# Altium footprint library resistencias_smd.PCBLIB: 183 footprints (part 12 of 12)
Each footprint in its own frame and in the unit in brackets; x right, y up, seen from the top. Pads: shape width x height; smd on the part's side, far side on the other; paste and mask are expansions set on the pad; w line width, h text height; cw(c..) or ccw(c..) is an arc to the next point about the centre after c.
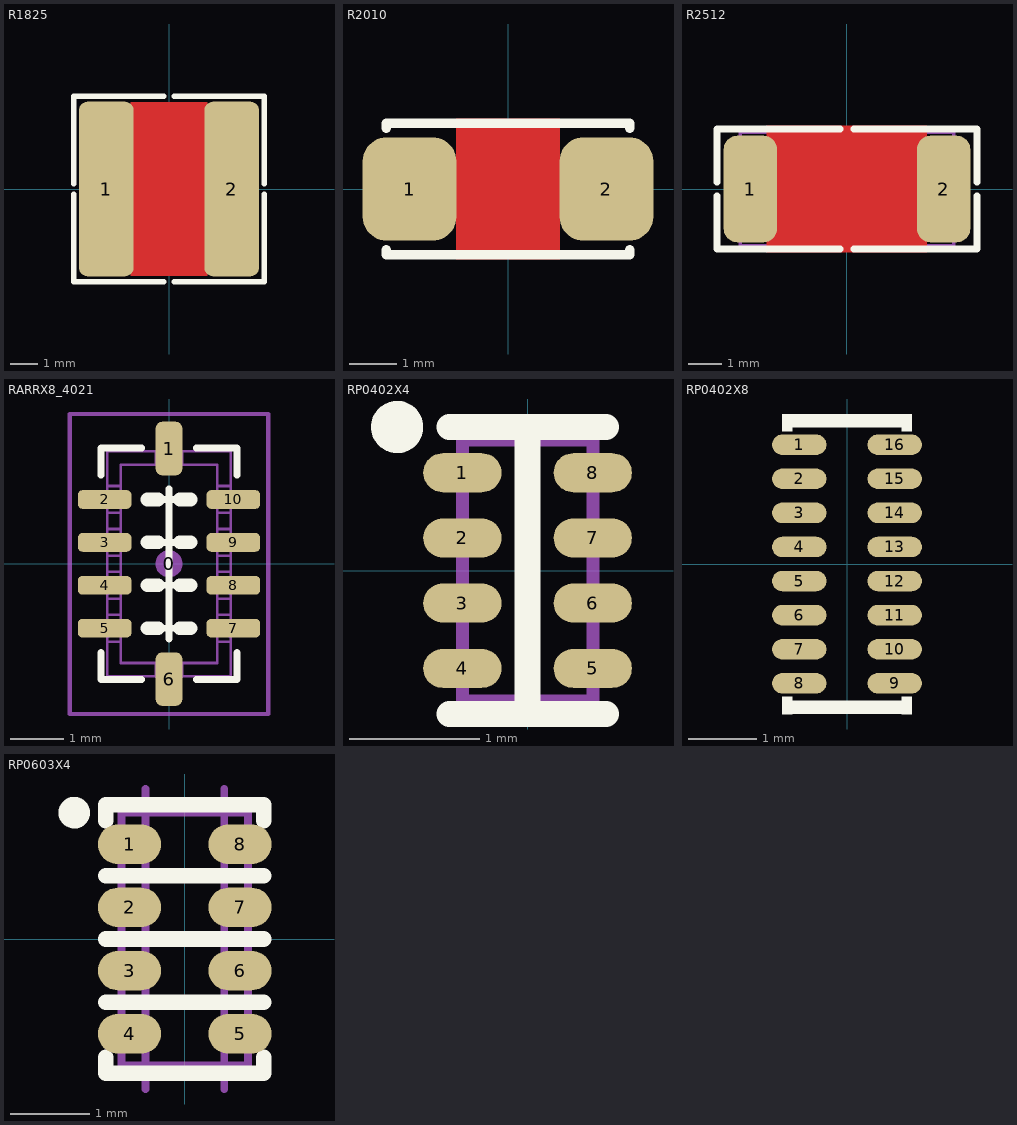
[diagram p11: the footprints below, top view; thin cyan lines are the x and y axes]

## R1825 [mm] "CHIP Resistor, 5.1x3.0mm, 4.6X6.4mm, 1825, 4565"
pads (2):
  rrect30% 2x6.4 smd: 1(-2.3,0) 2(2.3,0)
Top Layer:
  pour cut-out: 1.397,3.175 1.397,-3.175 -1.397,-3.175 -1.397,3.175
Top Overlay:
  lines w0.2: -3.5,-0.2 -3.5,-3.4 -0.2,-3.4 ; -3.5,0.2 -3.5,3.4 -0.2,3.4 ; 0.2,-3.4 3.5,-3.4 3.5,-0.2 ; 0.2,3.4 3.5,3.4 3.5,0.2
3D body "User Library-1825(4564M) Res.step": height 2.54, standoff 0, extent -2.81,-3.2 2.81,3.201

## R2010 [mm] "CHIP RESISTOR 3/4 WATT, 5.1x3mm, 2010, 5025"
pads (2):
  rrect50% 2x2.2 smd: 1(-2.1,0) 2(2.1,0)
Top Layer:
  pour cut-out: -1.1,1.5 1.1,1.5 1.1,-1.5 -1.1,-1.5
Top Overlay:
  lines w0.2: -2.6,-1.3 -2.6,-1.4 2.6,-1.4 2.6,-1.3 ; -2.6,1.3 -2.6,1.4 2.6,1.4 2.6,1.3
3D body "User Library-R_2010.step": height 0.6, standoff 0, extent -2.5,-1.25 2.5,1.25

## R2512 [mm] "CHIP RESISTOR 1 WATT, 6.4X3.2mm, 2512, 6432"
height 1
pads (2):
  rrect50% 1.6x3.2 smd: 1(-2.9,0) 2(2.9,0)
Top Layer:
  pour cut-out: -2.4,1.9 2.4,1.9 2.4,-1.9 -2.4,-1.9
Top Overlay:
  lines w0.2: -3.9,-0.2 -3.9,-1.8 -0.2,-1.8 ; -3.9,0.2 -3.9,1.8 -0.2,1.8 ; 0.2,-1.8 3.9,-1.8 3.9,-0.2 ; 0.2,1.8 3.9,1.8 3.9,0.2
Mechanical 13:
  lines w0.1: -3.2,-1.7 -3.2,1.7 3.2,1.7 3.2,-1.7 -3.2,-1.7
3D body "User Library-2512 SMD Resistor.step": height 1.6, standoff 0, extent -3.175,-1.5 3.175,1.5

## RARRX8_4021 [mm] "Resistor ARRAY X8, SMD, 4.0x2.1mm"
height 0.65
pads (11):
  round 0.508 on Mech15: 0(0,0)
  rrect50% 0.5x1 smd: 1(0,2.15) 6(0,-2.15)
  rrect50% 1x0.35 smd: 2(-1.2,1.2) 3(-1.2,0.4) 4(-1.2,-0.4) 5(-1.2,-1.2) 7(1.2,-1.2) 8(1.2,-0.4) 9(1.2,0.4) 10(1.2,1.2)
Top Overlay:
  lines w0.127: -1.27,-1.651 -1.27,-2.159 -0.508,-2.159 ; -1.27,1.651 -1.27,2.159 -0.508,2.159 ; -0.2,-1.2 0.2,-1.2 ; -0.2,-0.4 0.2,-0.4 ; -0.2,0.4 0.2,0.4 ; -0.2,1.2 0.2,1.2 ; 0,-1.4 0,1.4 ; 0.508,-2.159 1.27,-2.159 1.27,-1.651 ; 0.508,2.159 1.27,2.159 1.27,1.651
  lines w0.254: -0.4,-1.2 -0.2,-1.2 ; -0.4,-0.4 -0.2,-0.4 ; -0.4,0.4 -0.2,0.4 ; -0.4,1.2 -0.2,1.2 ; 0.2,-1.2 0.4,-1.2 ; 0.2,-0.4 0.4,-0.4 ; 0.2,0.4 0.4,0.4 ; 0.2,1.2 0.4,1.2
Mechanical 13:
  lines w0.05: -1.149,-0.95 -1.15,-0.65 ; -1.149,-0.15 -1.15,0.15 ; -1.149,0.65 -1.15,0.95 ; -0.9,-1.45 -1.15,-1.45 ; -0.9,-0.95 -1.15,-0.95 -1.15,-1.05 cw(c-1.15,-1.2) -1.15,-1.35 -1.15,-1.45 ; -0.9,-0.65 -1.15,-0.65 ; -0.9,-0.15 -1.15,-0.15 -1.15,-0.25 cw(c-1.15,-0.4) -1.15,-0.55 -1.15,-0.65 ; -0.9,0.15 -1.15,0.15 ; -0.9,0.65 -1.15,0.65 -1.15,0.55 cw(c-1.15,0.4) -1.15,0.25 -1.15,0.15 ; -0.9,0.95 -1.15,0.95 ; -0.9,1.45 -1.15,1.45 ; -0.25,-1.85 -0.25,-2.1 ; -0.25,1.85 -0.25,2.1 ; 0.25,-1.85 0.25,-2.1 ; 0.25,1.85 0.25,2.1 ; 0.9,-1.45 1.15,-1.45 ; 0.9,-0.95 1.15,-0.95 1.15,-1.05 ccw(c1.15,-1.2) 1.15,-1.35 1.15,-1.45 ; 0.9,-0.65 1.15,-0.65 ; 0.9,-0.15 1.15,-0.15 1.15,-0.25 ccw(c1.15,-0.4) 1.15,-0.55 1.15,-0.65 ; 0.9,0.15 1.15,0.15 ; 0.9,0.65 1.15,0.65 1.15,0.55 ccw(c1.15,0.4) 1.15,0.25 1.15,0.15 ; 0.9,0.95 1.15,0.95 ; 0.9,1.45 1.15,1.45 ; 1.149,-0.95 1.15,-0.65 ; 1.149,-0.15 1.15,0.15 ; 1.149,0.65 1.15,0.95 ; -1.15,-1.45 -1.149,-2.099 -0.25,-2.1 ; -1.15,0.95 -1.15,1.05 ccw(c-1.15,1.2) -1.15,1.35 -1.15,1.45 ; -1.15,1.45 -1.149,2.099 -0.25,2.1 ; -0.25,-2.1 -0.15,-2.1 cw(c0,-2.1) 0.15,-2.1 0.25,-2.1 ; -0.25,2.1 -0.15,2.1 ccw(c0,2.1) 0.15,2.1 0.25,2.1 ; 0.25,-2.1 1.149,-2.099 1.15,-1.45 ; 0.25,2.1 1.149,2.099 1.15,1.45 ; 1.15,0.95 1.15,1.05 cw(c1.15,1.2) 1.15,1.35 1.15,1.45 ; -0.9,-1.85 0.9,-1.85 0.9,1.85 -0.9,1.85 -0.9,-1.85
Mechanical 15:
  lines w0.076: -1.85,-2.8 -1.85,2.794 1.85,2.794 1.85,-2.8 -1.85,-2.8
3D body "RES_ARRAY_EXBE.STEP": height 0.65, standoff 0, extent -1.15,-2.1 1.15,2.1

## RP0402X4 [mm] "RPACK, 0804, 0402X4, 100X50X4, 2.00x1.00mm"
height 0.4
pads (8):
  oval 0.6x0.3 smd mask+0.1: 1(-0.5,0.75) 2(-0.5,0.25) 3(-0.5,-0.25) 4(-0.5,-0.75) 5(0.5,-0.75) 6(0.5,-0.25) 7(0.5,0.25) 8(0.5,0.75)
Top Overlay:
  circle w0.2: c-1,1.1 r0.1
  lines w0.2: -0.6,-1.1 0.6,-1.1 ; -0.6,1.1 0.6,1.1 ; 0,-1.1 0,1.1
Mechanical 13:
  lines w0.1: -0.5,-1 -0.5,1 0.5,1 0.5,-1 -0.5,-1
3D body "User Library-YC124-1.step": height 0.45, standoff 0, extent -0.5,-1 0.5,1

## RP0402X8 [mm] "RPACK, 0402X8, 4x1.6mm"
height 0.4
pads (16):
  oval 0.8x0.3 smd mask+0.05: 1(-0.7,1.75) 2(-0.7,1.25) 3(-0.7,0.75) 4(-0.7,0.25) 5(-0.7,-0.25) 6(-0.7,-0.75) 7(-0.7,-1.25) 8(-0.7,-1.75) 9(0.7,-1.75) 10(0.7,-1.25) 11(0.7,-0.75) 12(0.7,-0.25) 13(0.7,0.25) 14(0.7,0.75) 15(0.7,1.25) 16(0.7,1.75)
Top Overlay:
  region: -0.8,2.2 -0.8,1.95 -0.95,1.95 -0.95,2.2
  region: 0.8,2.2 0.8,1.95 0.95,1.95 0.95,2.2
  region: 0.8,-2.2 0.8,-1.95 0.95,-1.95 0.95,-2.2
  region: -0.8,-2.2 -0.8,-1.95 -0.95,-1.95 -0.95,-2.2
  lines w0.2: -0.85,-2.1 0.85,-2.1 ; -0.85,2.1 0.85,2.1
3D body "User Library-YC248-1.step": height 0.45, standoff 0, extent -0.8,-2 0.8,2

## RP0603X4 [mm] "RPACK, 0603X4, 160X80X4 1206"
height 0.4
pads (8):
  oval 0.8x0.5 smd: 1(-0.7,1.2) 2(-0.7,0.4) 3(-0.7,-0.4) 4(-0.7,-1.2) 5(0.7,-1.2) 6(0.7,-0.4) 7(0.7,0.4) 8(0.7,1.2)
Top Overlay:
  circle w0.2: c-1.4,1.6 r0.1
  lines w0.2: -1,-1.5 -1,-1.7 1,-1.7 1,-1.5 ; -1,-0.8 1,-0.8 ; -1,0 1,0 ; -1,0.8 1,0.8 ; -1,1.5 -1,1.7 1,1.7 1,1.5
Mechanical 13:
  lines w0.1: -0.5,-1.9 -0.5,1.9 ; 0.5,-1.9 0.5,1.9 ; -0.8,-1.6 -0.8,1.6 0.8,1.6 0.8,-1.6 -0.8,-1.6
  text "4X0402" at -1.3,2.1 h0.5
  text "0603X4" at -1.3,-2.6 h0.5
3D body "User Library-Array-1206-4Way-Var1.STEP": height 0.5, standoff 0, extent -0.8,-1.6 0.8,1.6